# Altium schematic symbol library ESD0524P.A1.SchLib: 1 symbol
Pins are listed as number, name and electrical type; pins without a type are passive.

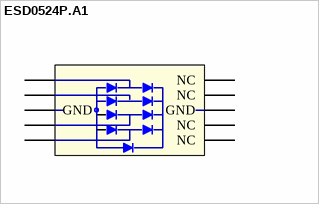
[diagram p0: symbol ESD0524P.A1]

## ESD0524P.A1
designator D?
pins: 1 IO1, 2 IO2 (power), 3 GND, 4 IO3, 5 IO4, 6 NC, 7 NC, 8 GND, 9 NC (power), 10 NC